# Altium schematic symbol library LSM0603453V.SchLib: 1 symbol
Pins are listed as number, name and electrical type; pins without a type are passive.

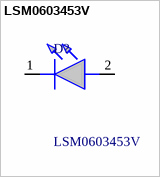
[diagram p0: symbol LSM0603453V]

## LSM0603453V
designator D?
Standard LEDs - SMD SMD 0603 3V 1000mcd GREEN; Manufacturer_Name: Visual Communications Company; Geometry.Height: 0.55mm; Mouser Part Number: 593-LSM0603453V; Mouser Price/Stock: https://www.mouser.co.uk/ProductDetail/VCC/LSM0603453V?qs=%252BEew9%252B0nqrBOKWP8d%2FyQXQ%3D%3D; Manufacturer_Part_Number: LSM0603453V; Datasheet Link: https://vcclite.com/wp-content/uploads/wpallimport/files/files/LSM0603453V.pdf
footprint LEDC1608X55N
pins: 1 K, 2 A